# Altium integrated library Microchip Power Management Battery Management.IntLib: 217 symbols (part 3 of 5)
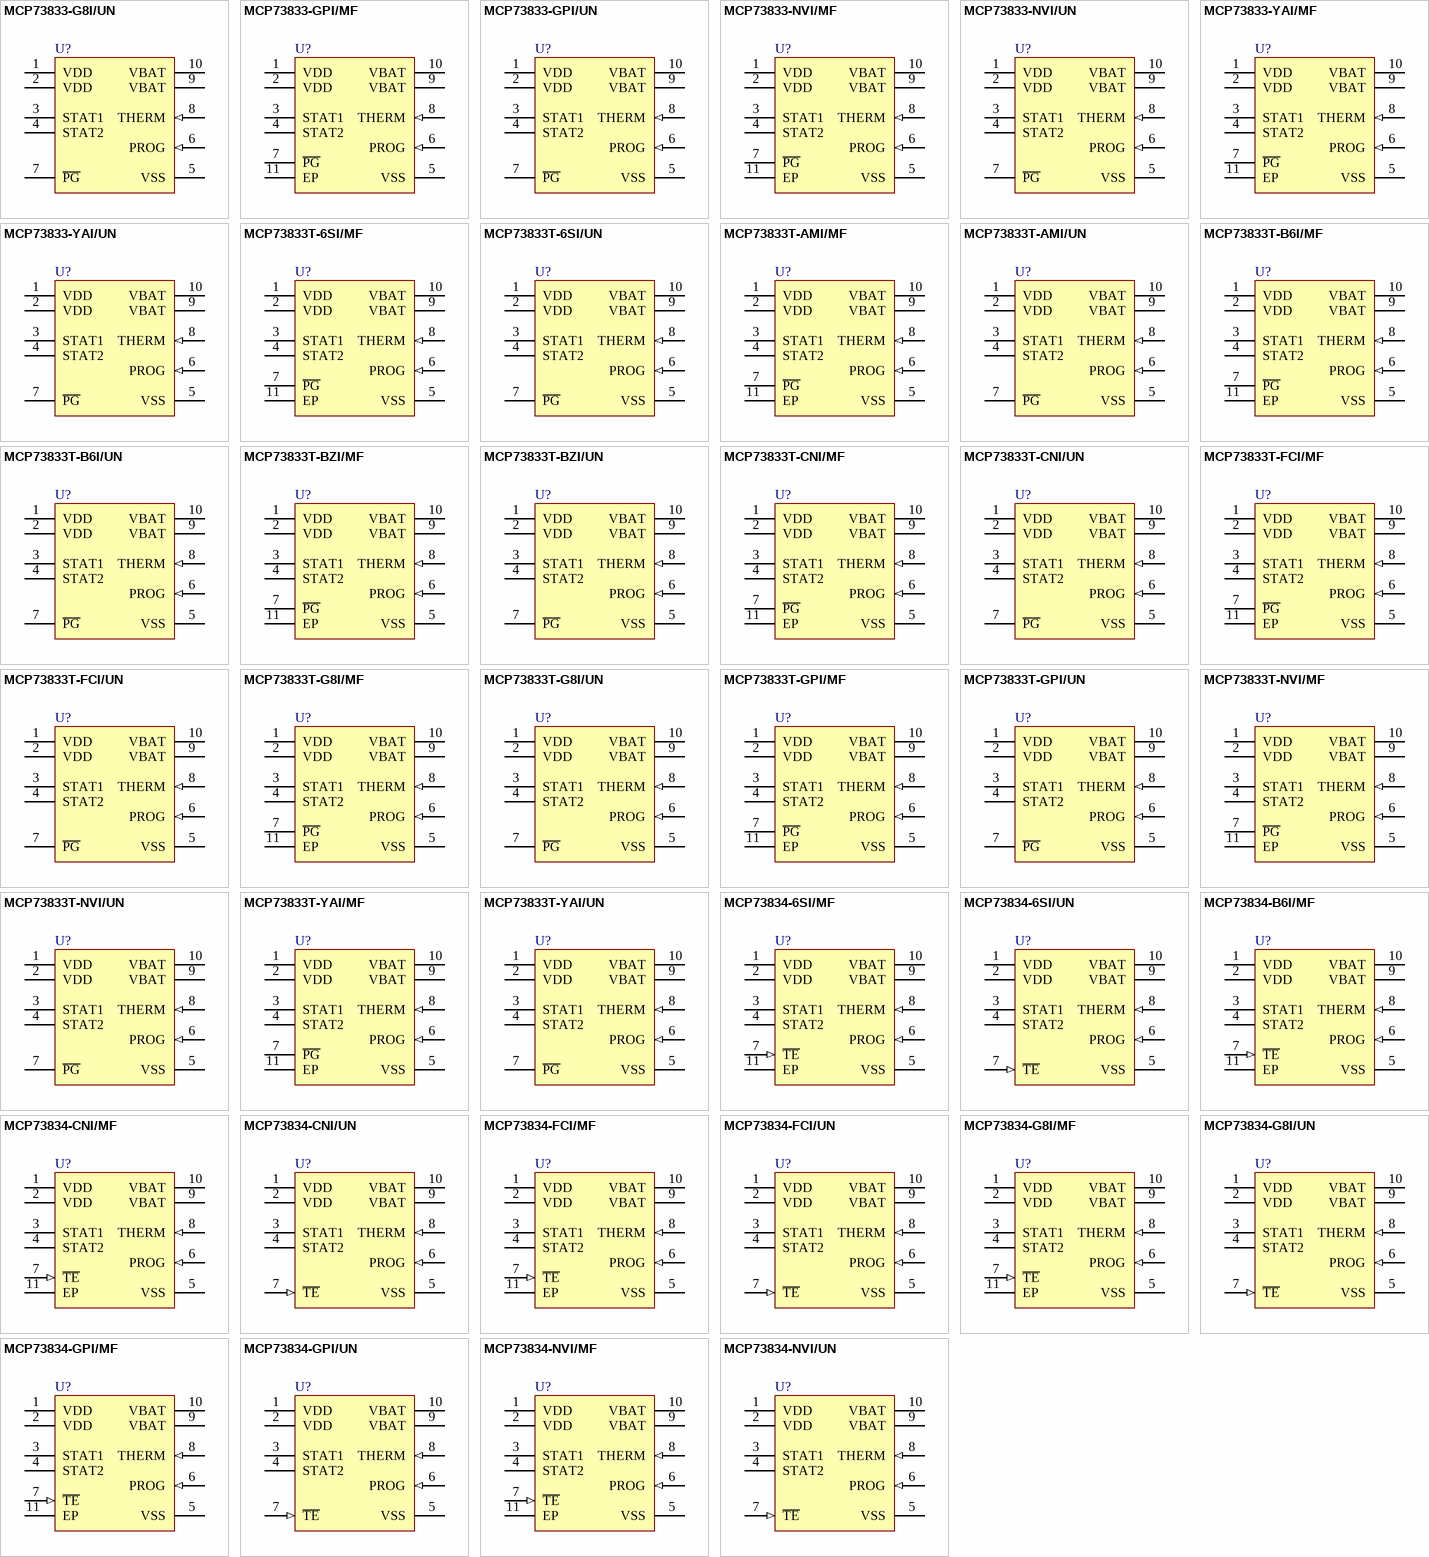
[diagram p8: symbols MCP73833-G8I/UN to MCP73834-NVI/UN]

## MCP73833T-FCI/MF
designator U?
Stand-Alone Linear Li-Ion/Li-Polymer Charge Management Controller with Power-Good Output, 4.2V, 10-Pin DFN, Industrial Temperature, Tape and Reel; DatasheetVersion: revB, May-2009; PackageVersion: revBB, Aug-2009; PackageReference: DFN-MF10; PackageDescription: 10-Lead Plastic Dual Flat, No Lead Package (MF) - 3x3x0.9mm Body [DFN]; ComponentLink1Description: Manufacturer URL; ComponentLink1URL: http://www.microchip.com/; ComponentLink2Description: Datasheet; ComponentLink2URL: http://ww1.microchip.com/downloads/en/DeviceDoc/22005b.pdf; ComponentLink3Description: Package Specification; ComponentLink3URL: http://www.microchip.com/stellent/groups/techpub_sg/documents/packagingspec/en012702.pdf
footprint DFN-MF10 (SON, 10-Leads, Body 3x3mm, Pitch 0.5mm, Microchip Recommended)
pins: 1 VDD (power), 2 VDD (power), 3 STAT1 (oc), 4 STAT2 (oc), 5 VSS (power), 6 PROG (in), 7 ~{PG} (oc), 8 THERM (in), 9 VBAT (power), 10 VBAT (power), 11 EP (power)

## MCP73833T-FCI/UN
designator U?
Stand-Alone Linear Li-Ion/Li-Polymer Charge Management Controller with Power-Good Output, 4.2V, 10-Pin MSOP, Industrial Temperature, Tape and Reel; DatasheetVersion: revB, May-2009; PackageVersion: revBB, Aug-2009; PackageReference: MSOP-UN10; PackageDescription: 10-Lead Plastic Micro Small Outline Package (UN) [MSOP]; ComponentLink1Description: Manufacturer URL; ComponentLink1URL: http://www.microchip.com/; ComponentLink2Description: Datasheet; ComponentLink2URL: http://ww1.microchip.com/downloads/en/DeviceDoc/22005b.pdf; ComponentLink3Description: Package Specification; ComponentLink3URL: http://www.microchip.com/stellent/groups/techpub_sg/documents/packagingspec/en012702.pdf
footprint MSOP-UN10_N (TSSOP, 10-Leads, Body 3x3mm, Pitch 0.5mm, IPC Medium Density)
footprint MSOP-UN10_L (TSSOP, 10-Leads, Body 3x3mm, Pitch 0.5mm, IPC High Density)
footprint MSOP-UN10_M (TSSOP, 10-Leads, Body 3x3mm, Pitch 0.5mm, IPC Low Density)
pins: 1 VDD (power), 2 VDD (power), 3 STAT1 (oc), 4 STAT2 (oc), 5 VSS (power), 6 PROG (in), 7 ~{PG} (oc), 8 THERM (in), 9 VBAT (power), 10 VBAT (power)

## MCP73833T-G8I/MF
designator U?
Stand-Alone Linear Li-Ion/Li-Polymer Charge Management Controller with Power-Good Output, 4.2V, 10-Pin DFN, Industrial Temperature, Tape and Reel; DatasheetVersion: revB, May-2009; PackageVersion: revBB, Aug-2009; PackageReference: DFN-MF10; PackageDescription: 10-Lead Plastic Dual Flat, No Lead Package (MF) - 3x3x0.9mm Body [DFN]; ComponentLink1Description: Manufacturer URL; ComponentLink1URL: http://www.microchip.com/; ComponentLink2Description: Datasheet; ComponentLink2URL: http://ww1.microchip.com/downloads/en/DeviceDoc/22005b.pdf; ComponentLink3Description: Package Specification; ComponentLink3URL: http://www.microchip.com/stellent/groups/techpub_sg/documents/packagingspec/en012702.pdf
footprint DFN-MF10 (SON, 10-Leads, Body 3x3mm, Pitch 0.5mm, Microchip Recommended)
pins: 1 VDD (power), 2 VDD (power), 3 STAT1 (oc), 4 STAT2 (oc), 5 VSS (power), 6 PROG (in), 7 ~{PG} (oc), 8 THERM (in), 9 VBAT (power), 10 VBAT (power), 11 EP (power)

## MCP73833T-G8I/UN
designator U?
Stand-Alone Linear Li-Ion/Li-Polymer Charge Management Controller with Power-Good Output, 4.2V, 10-Pin MSOP, Industrial Temperature, Tape and Reel; DatasheetVersion: revB, May-2009; PackageVersion: revBB, Aug-2009; PackageReference: MSOP-UN10; PackageDescription: 10-Lead Plastic Micro Small Outline Package (UN) [MSOP]; ComponentLink1Description: Manufacturer URL; ComponentLink1URL: http://www.microchip.com/; ComponentLink2Description: Datasheet; ComponentLink2URL: http://ww1.microchip.com/downloads/en/DeviceDoc/22005b.pdf; ComponentLink3Description: Package Specification; ComponentLink3URL: http://www.microchip.com/stellent/groups/techpub_sg/documents/packagingspec/en012702.pdf
footprint MSOP-UN10_N (TSSOP, 10-Leads, Body 3x3mm, Pitch 0.5mm, IPC Medium Density)
footprint MSOP-UN10_L (TSSOP, 10-Leads, Body 3x3mm, Pitch 0.5mm, IPC High Density)
footprint MSOP-UN10_M (TSSOP, 10-Leads, Body 3x3mm, Pitch 0.5mm, IPC Low Density)
pins: 1 VDD (power), 2 VDD (power), 3 STAT1 (oc), 4 STAT2 (oc), 5 VSS (power), 6 PROG (in), 7 ~{PG} (oc), 8 THERM (in), 9 VBAT (power), 10 VBAT (power)

## MCP73833T-GPI/MF
designator U?
Stand-Alone Linear Li-Ion/Li-Polymer Charge Management Controller with Power-Good Output, 4.2V, 10-Pin DFN, Industrial Temperature, Tape and Reel; DatasheetVersion: revB, May-2009; PackageVersion: revBB, Aug-2009; PackageReference: DFN-MF10; PackageDescription: 10-Lead Plastic Dual Flat, No Lead Package (MF) - 3x3x0.9mm Body [DFN]; ComponentLink1Description: Manufacturer URL; ComponentLink1URL: http://www.microchip.com/; ComponentLink2Description: Datasheet; ComponentLink2URL: http://ww1.microchip.com/downloads/en/DeviceDoc/22005b.pdf; ComponentLink3Description: Package Specification; ComponentLink3URL: http://www.microchip.com/stellent/groups/techpub_sg/documents/packagingspec/en012702.pdf
footprint DFN-MF10 (SON, 10-Leads, Body 3x3mm, Pitch 0.5mm, Microchip Recommended)
pins: 1 VDD (power), 2 VDD (power), 3 STAT1 (oc), 4 STAT2 (oc), 5 VSS (power), 6 PROG (in), 7 ~{PG} (oc), 8 THERM (in), 9 VBAT (power), 10 VBAT (power), 11 EP (power)

## MCP73833T-GPI/UN
designator U?
Stand-Alone Linear Li-Ion/Li-Polymer Charge Management Controller with Power-Good Output, 4.2V, 10-Pin MSOP, Industrial Temperature, Tape and Reel; DatasheetVersion: revB, May-2009; PackageVersion: revBB, Aug-2009; PackageReference: MSOP-UN10; PackageDescription: 10-Lead Plastic Micro Small Outline Package (UN) [MSOP]; ComponentLink1Description: Manufacturer URL; ComponentLink1URL: http://www.microchip.com/; ComponentLink2Description: Datasheet; ComponentLink2URL: http://ww1.microchip.com/downloads/en/DeviceDoc/22005b.pdf; ComponentLink3Description: Package Specification; ComponentLink3URL: http://www.microchip.com/stellent/groups/techpub_sg/documents/packagingspec/en012702.pdf
footprint MSOP-UN10_N (TSSOP, 10-Leads, Body 3x3mm, Pitch 0.5mm, IPC Medium Density)
footprint MSOP-UN10_L (TSSOP, 10-Leads, Body 3x3mm, Pitch 0.5mm, IPC High Density)
footprint MSOP-UN10_M (TSSOP, 10-Leads, Body 3x3mm, Pitch 0.5mm, IPC Low Density)
pins: 1 VDD (power), 2 VDD (power), 3 STAT1 (oc), 4 STAT2 (oc), 5 VSS (power), 6 PROG (in), 7 ~{PG} (oc), 8 THERM (in), 9 VBAT (power), 10 VBAT (power)

## MCP73833T-NVI/MF
designator U?
Stand-Alone Linear Li-Ion/Li-Polymer Charge Management Controller with Power-Good Output, 4.35V, 10-Pin DFN, Industrial Temperature, Tape and Reel; DatasheetVersion: revB, May-2009; PackageVersion: revBB, Aug-2009; PackageReference: DFN-MF10; PackageDescription: 10-Lead Plastic Dual Flat, No Lead Package (MF) - 3x3x0.9mm Body [DFN]; ComponentLink1Description: Manufacturer URL; ComponentLink1URL: http://www.microchip.com/; ComponentLink2Description: Datasheet; ComponentLink2URL: http://ww1.microchip.com/downloads/en/DeviceDoc/22005b.pdf; ComponentLink3Description: Package Specification; ComponentLink3URL: http://www.microchip.com/stellent/groups/techpub_sg/documents/packagingspec/en012702.pdf
footprint DFN-MF10 (SON, 10-Leads, Body 3x3mm, Pitch 0.5mm, Microchip Recommended)
pins: 1 VDD (power), 2 VDD (power), 3 STAT1 (oc), 4 STAT2 (oc), 5 VSS (power), 6 PROG (in), 7 ~{PG} (oc), 8 THERM (in), 9 VBAT (power), 10 VBAT (power), 11 EP (power)

## MCP73833T-NVI/UN
designator U?
Stand-Alone Linear Li-Ion/Li-Polymer Charge Management Controller with Power-Good Output, 4.35V, 10-Pin MSOP, Industrial Temperature, Tape and Reel; DatasheetVersion: revB, May-2009; PackageVersion: revBB, Aug-2009; PackageReference: MSOP-UN10; PackageDescription: 10-Lead Plastic Micro Small Outline Package (UN) [MSOP]; ComponentLink1Description: Manufacturer URL; ComponentLink1URL: http://www.microchip.com/; ComponentLink2Description: Datasheet; ComponentLink2URL: http://ww1.microchip.com/downloads/en/DeviceDoc/22005b.pdf; ComponentLink3Description: Package Specification; ComponentLink3URL: http://www.microchip.com/stellent/groups/techpub_sg/documents/packagingspec/en012702.pdf
footprint MSOP-UN10_N (TSSOP, 10-Leads, Body 3x3mm, Pitch 0.5mm, IPC Medium Density)
footprint MSOP-UN10_L (TSSOP, 10-Leads, Body 3x3mm, Pitch 0.5mm, IPC High Density)
footprint MSOP-UN10_M (TSSOP, 10-Leads, Body 3x3mm, Pitch 0.5mm, IPC Low Density)
pins: 1 VDD (power), 2 VDD (power), 3 STAT1 (oc), 4 STAT2 (oc), 5 VSS (power), 6 PROG (in), 7 ~{PG} (oc), 8 THERM (in), 9 VBAT (power), 10 VBAT (power)

## MCP73833T-YAI/MF
designator U?
Stand-Alone Linear Li-Ion/Li-Polymer Charge Management Controller with Power-Good Output, 4.2V, 10-Pin DFN, Industrial Temperature, Tape and Reel; DatasheetVersion: revB, May-2009; PackageVersion: revBB, Aug-2009; PackageReference: DFN-MF10; PackageDescription: 10-Lead Plastic Dual Flat, No Lead Package (MF) - 3x3x0.9mm Body [DFN]; ComponentLink1Description: Manufacturer URL; ComponentLink1URL: http://www.microchip.com/; ComponentLink2Description: Datasheet; ComponentLink2URL: http://ww1.microchip.com/downloads/en/DeviceDoc/22005b.pdf; ComponentLink3Description: Package Specification; ComponentLink3URL: http://www.microchip.com/stellent/groups/techpub_sg/documents/packagingspec/en012702.pdf
footprint DFN-MF10 (SON, 10-Leads, Body 3x3mm, Pitch 0.5mm, Microchip Recommended)
pins: 1 VDD (power), 2 VDD (power), 3 STAT1 (oc), 4 STAT2 (oc), 5 VSS (power), 6 PROG (in), 7 ~{PG} (oc), 8 THERM (in), 9 VBAT (power), 10 VBAT (power), 11 EP (power)

## MCP73833T-YAI/UN
designator U?
Stand-Alone Linear Li-Ion/Li-Polymer Charge Management Controller with Power-Good Output, 4.2V, 10-Pin MSOP, Industrial Temperature, Tape and Reel; DatasheetVersion: revB, May-2009; PackageVersion: revBB, Aug-2009; PackageReference: MSOP-UN10; PackageDescription: 10-Lead Plastic Micro Small Outline Package (UN) [MSOP]; ComponentLink1Description: Manufacturer URL; ComponentLink1URL: http://www.microchip.com/; ComponentLink2Description: Datasheet; ComponentLink2URL: http://ww1.microchip.com/downloads/en/DeviceDoc/22005b.pdf; ComponentLink3Description: Package Specification; ComponentLink3URL: http://www.microchip.com/stellent/groups/techpub_sg/documents/packagingspec/en012702.pdf
footprint MSOP-UN10_N (TSSOP, 10-Leads, Body 3x3mm, Pitch 0.5mm, IPC Medium Density)
footprint MSOP-UN10_L (TSSOP, 10-Leads, Body 3x3mm, Pitch 0.5mm, IPC High Density)
footprint MSOP-UN10_M (TSSOP, 10-Leads, Body 3x3mm, Pitch 0.5mm, IPC Low Density)
pins: 1 VDD (power), 2 VDD (power), 3 STAT1 (oc), 4 STAT2 (oc), 5 VSS (power), 6 PROG (in), 7 ~{PG} (oc), 8 THERM (in), 9 VBAT (power), 10 VBAT (power)

## MCP73834-6SI/MF
designator U?
Stand-Alone Linear Li-Ion/Li-Polymer Charge Management Controller with Timer Enable, 4.2V, 10-Pin DFN, Industrial Temperature; DatasheetVersion: revB, May-2009; PackageVersion: revBB, Aug-2009; PackageReference: DFN-MF10; PackageDescription: 10-Lead Plastic Dual Flat, No Lead Package (MF) - 3x3x0.9mm Body [DFN]; ComponentLink1Description: Manufacturer URL; ComponentLink1URL: http://www.microchip.com/; ComponentLink2Description: Datasheet; ComponentLink2URL: http://ww1.microchip.com/downloads/en/DeviceDoc/22005b.pdf; ComponentLink3Description: Package Specification; ComponentLink3URL: http://www.microchip.com/stellent/groups/techpub_sg/documents/packagingspec/en012702.pdf
footprint DFN-MF10 (SON, 10-Leads, Body 3x3mm, Pitch 0.5mm, Microchip Recommended)
pins: 1 VDD (power), 2 VDD (power), 3 STAT1 (oc), 4 STAT2 (oc), 5 VSS (power), 6 PROG (in), 7 ~{TE} (in), 8 THERM (in), 9 VBAT (power), 10 VBAT (power), 11 EP (power)

## MCP73834-6SI/UN
designator U?
Stand-Alone Linear Li-Ion/Li-Polymer Charge Management Controller with Timer Enable, 4.2V, 10-Pin MSOP, Industrial Temperature; DatasheetVersion: revB, May-2009; PackageVersion: revBB, Aug-2009; PackageReference: MSOP-UN10; PackageDescription: 10-Lead Plastic Micro Small Outline Package (UN) [MSOP]; ComponentLink1Description: Manufacturer URL; ComponentLink1URL: http://www.microchip.com/; ComponentLink2Description: Datasheet; ComponentLink2URL: http://ww1.microchip.com/downloads/en/DeviceDoc/22005b.pdf; ComponentLink3Description: Package Specification; ComponentLink3URL: http://www.microchip.com/stellent/groups/techpub_sg/documents/packagingspec/en012702.pdf
footprint MSOP-UN10_N (TSSOP, 10-Leads, Body 3x3mm, Pitch 0.5mm, IPC Medium Density)
footprint MSOP-UN10_L (TSSOP, 10-Leads, Body 3x3mm, Pitch 0.5mm, IPC High Density)
footprint MSOP-UN10_M (TSSOP, 10-Leads, Body 3x3mm, Pitch 0.5mm, IPC Low Density)
pins: 1 VDD (power), 2 VDD (power), 3 STAT1 (oc), 4 STAT2 (oc), 5 VSS (power), 6 PROG (in), 7 ~{TE} (in), 8 THERM (in), 9 VBAT (power), 10 VBAT (power)

## MCP73834-B6I/MF
designator U?
Stand-Alone Linear Li-Ion/Li-Polymer Charge Management Controller with Timer Enable, 4.2V, 10-Pin DFN, Industrial Temperature; DatasheetVersion: revB, May-2009; PackageVersion: revBB, Aug-2009; PackageReference: DFN-MF10; PackageDescription: 10-Lead Plastic Dual Flat, No Lead Package (MF) - 3x3x0.9mm Body [DFN]; ComponentLink1Description: Manufacturer URL; ComponentLink1URL: http://www.microchip.com/; ComponentLink2Description: Datasheet; ComponentLink2URL: http://ww1.microchip.com/downloads/en/DeviceDoc/22005b.pdf; ComponentLink3Description: Package Specification; ComponentLink3URL: http://www.microchip.com/stellent/groups/techpub_sg/documents/packagingspec/en012702.pdf
footprint DFN-MF10 (SON, 10-Leads, Body 3x3mm, Pitch 0.5mm, Microchip Recommended)
pins: 1 VDD (power), 2 VDD (power), 3 STAT1 (oc), 4 STAT2 (oc), 5 VSS (power), 6 PROG (in), 7 ~{TE} (in), 8 THERM (in), 9 VBAT (power), 10 VBAT (power), 11 EP (power)

## MCP73834-CNI/MF
designator U?
Stand-Alone Linear Li-Ion/Li-Polymer Charge Management Controller with Timer Enable, 4.2V, 10-Pin DFN, Industrial Temperature; DatasheetVersion: revB, May-2009; PackageVersion: revBB, Aug-2009; PackageReference: DFN-MF10; PackageDescription: 10-Lead Plastic Dual Flat, No Lead Package (MF) - 3x3x0.9mm Body [DFN]; ComponentLink1Description: Manufacturer URL; ComponentLink1URL: http://www.microchip.com/; ComponentLink2Description: Datasheet; ComponentLink2URL: http://ww1.microchip.com/downloads/en/DeviceDoc/22005b.pdf; ComponentLink3Description: Package Specification; ComponentLink3URL: http://www.microchip.com/stellent/groups/techpub_sg/documents/packagingspec/en012702.pdf
footprint DFN-MF10 (SON, 10-Leads, Body 3x3mm, Pitch 0.5mm, Microchip Recommended)
pins: 1 VDD (power), 2 VDD (power), 3 STAT1 (oc), 4 STAT2 (oc), 5 VSS (power), 6 PROG (in), 7 ~{TE} (in), 8 THERM (in), 9 VBAT (power), 10 VBAT (power), 11 EP (power)

## MCP73834-CNI/UN
designator U?
Stand-Alone Linear Li-Ion/Li-Polymer Charge Management Controller with Timer Enable, 4.2V, 10-Pin MSOP, Industrial Temperature; DatasheetVersion: revB, May-2009; PackageVersion: revBB, Aug-2009; PackageReference: MSOP-UN10; PackageDescription: 10-Lead Plastic Micro Small Outline Package (UN) [MSOP]; ComponentLink1Description: Manufacturer URL; ComponentLink1URL: http://www.microchip.com/; ComponentLink2Description: Datasheet; ComponentLink2URL: http://ww1.microchip.com/downloads/en/DeviceDoc/22005b.pdf; ComponentLink3Description: Package Specification; ComponentLink3URL: http://www.microchip.com/stellent/groups/techpub_sg/documents/packagingspec/en012702.pdf
footprint MSOP-UN10_N (TSSOP, 10-Leads, Body 3x3mm, Pitch 0.5mm, IPC Medium Density)
footprint MSOP-UN10_L (TSSOP, 10-Leads, Body 3x3mm, Pitch 0.5mm, IPC High Density)
footprint MSOP-UN10_M (TSSOP, 10-Leads, Body 3x3mm, Pitch 0.5mm, IPC Low Density)
pins: 1 VDD (power), 2 VDD (power), 3 STAT1 (oc), 4 STAT2 (oc), 5 VSS (power), 6 PROG (in), 7 ~{TE} (in), 8 THERM (in), 9 VBAT (power), 10 VBAT (power)

## MCP73834-FCI/MF
designator U?
Stand-Alone Linear Li-Ion/Li-Polymer Charge Management Controller with Timer Enable, 4.2V, 10-Pin DFN, Industrial Temperature; DatasheetVersion: revB, May-2009; PackageVersion: revBB, Aug-2009; PackageReference: DFN-MF10; PackageDescription: 10-Lead Plastic Dual Flat, No Lead Package (MF) - 3x3x0.9mm Body [DFN]; ComponentLink1Description: Manufacturer URL; ComponentLink1URL: http://www.microchip.com/; ComponentLink2Description: Datasheet; ComponentLink2URL: http://ww1.microchip.com/downloads/en/DeviceDoc/22005b.pdf; ComponentLink3Description: Package Specification; ComponentLink3URL: http://www.microchip.com/stellent/groups/techpub_sg/documents/packagingspec/en012702.pdf
footprint DFN-MF10 (SON, 10-Leads, Body 3x3mm, Pitch 0.5mm, Microchip Recommended)
pins: 1 VDD (power), 2 VDD (power), 3 STAT1 (oc), 4 STAT2 (oc), 5 VSS (power), 6 PROG (in), 7 ~{TE} (in), 8 THERM (in), 9 VBAT (power), 10 VBAT (power), 11 EP (power)

## MCP73834-FCI/UN
designator U?
Stand-Alone Linear Li-Ion/Li-Polymer Charge Management Controller with Timer Enable, 4.2V, 10-Pin MSOP, Industrial Temperature; DatasheetVersion: revB, May-2009; PackageVersion: revBB, Aug-2009; PackageReference: MSOP-UN10; PackageDescription: 10-Lead Plastic Micro Small Outline Package (UN) [MSOP]; ComponentLink1Description: Manufacturer URL; ComponentLink1URL: http://www.microchip.com/; ComponentLink2Description: Datasheet; ComponentLink2URL: http://ww1.microchip.com/downloads/en/DeviceDoc/22005b.pdf; ComponentLink3Description: Package Specification; ComponentLink3URL: http://www.microchip.com/stellent/groups/techpub_sg/documents/packagingspec/en012702.pdf
footprint MSOP-UN10_N (TSSOP, 10-Leads, Body 3x3mm, Pitch 0.5mm, IPC Medium Density)
footprint MSOP-UN10_L (TSSOP, 10-Leads, Body 3x3mm, Pitch 0.5mm, IPC High Density)
footprint MSOP-UN10_M (TSSOP, 10-Leads, Body 3x3mm, Pitch 0.5mm, IPC Low Density)
pins: 1 VDD (power), 2 VDD (power), 3 STAT1 (oc), 4 STAT2 (oc), 5 VSS (power), 6 PROG (in), 7 ~{TE} (in), 8 THERM (in), 9 VBAT (power), 10 VBAT (power)

## MCP73834-G8I/MF
designator U?
Stand-Alone Linear Li-Ion/Li-Polymer Charge Management Controller with Timer Enable, 4.2V, 10-Pin DFN, Industrial Temperature; DatasheetVersion: revB, May-2009; PackageVersion: revBB, Aug-2009; PackageReference: DFN-MF10; PackageDescription: 10-Lead Plastic Dual Flat, No Lead Package (MF) - 3x3x0.9mm Body [DFN]; ComponentLink1Description: Manufacturer URL; ComponentLink1URL: http://www.microchip.com/; ComponentLink2Description: Datasheet; ComponentLink2URL: http://ww1.microchip.com/downloads/en/DeviceDoc/22005b.pdf; ComponentLink3Description: Package Specification; ComponentLink3URL: http://www.microchip.com/stellent/groups/techpub_sg/documents/packagingspec/en012702.pdf
footprint DFN-MF10 (SON, 10-Leads, Body 3x3mm, Pitch 0.5mm, Microchip Recommended)
pins: 1 VDD (power), 2 VDD (power), 3 STAT1 (oc), 4 STAT2 (oc), 5 VSS (power), 6 PROG (in), 7 ~{TE} (in), 8 THERM (in), 9 VBAT (power), 10 VBAT (power), 11 EP (power)

## MCP73834-G8I/UN
designator U?
Stand-Alone Linear Li-Ion/Li-Polymer Charge Management Controller with Timer Enable, 4.2V, 10-Pin MSOP, Industrial Temperature; DatasheetVersion: revB, May-2009; PackageVersion: revBB, Aug-2009; PackageReference: MSOP-UN10; PackageDescription: 10-Lead Plastic Micro Small Outline Package (UN) [MSOP]; ComponentLink1Description: Manufacturer URL; ComponentLink1URL: http://www.microchip.com/; ComponentLink2Description: Datasheet; ComponentLink2URL: http://ww1.microchip.com/downloads/en/DeviceDoc/22005b.pdf; ComponentLink3Description: Package Specification; ComponentLink3URL: http://www.microchip.com/stellent/groups/techpub_sg/documents/packagingspec/en012702.pdf
footprint MSOP-UN10_N (TSSOP, 10-Leads, Body 3x3mm, Pitch 0.5mm, IPC Medium Density)
footprint MSOP-UN10_L (TSSOP, 10-Leads, Body 3x3mm, Pitch 0.5mm, IPC High Density)
footprint MSOP-UN10_M (TSSOP, 10-Leads, Body 3x3mm, Pitch 0.5mm, IPC Low Density)
pins: 1 VDD (power), 2 VDD (power), 3 STAT1 (oc), 4 STAT2 (oc), 5 VSS (power), 6 PROG (in), 7 ~{TE} (in), 8 THERM (in), 9 VBAT (power), 10 VBAT (power)

## MCP73834-GPI/MF
designator U?
Stand-Alone Linear Li-Ion/Li-Polymer Charge Management Controller with Timer Enable, 4.2V, 10-Pin DFN, Industrial Temperature; DatasheetVersion: revB, May-2009; PackageVersion: revBB, Aug-2009; PackageReference: DFN-MF10; PackageDescription: 10-Lead Plastic Dual Flat, No Lead Package (MF) - 3x3x0.9mm Body [DFN]; ComponentLink1Description: Manufacturer URL; ComponentLink1URL: http://www.microchip.com/; ComponentLink2Description: Datasheet; ComponentLink2URL: http://ww1.microchip.com/downloads/en/DeviceDoc/22005b.pdf; ComponentLink3Description: Package Specification; ComponentLink3URL: http://www.microchip.com/stellent/groups/techpub_sg/documents/packagingspec/en012702.pdf
footprint DFN-MF10 (SON, 10-Leads, Body 3x3mm, Pitch 0.5mm, Microchip Recommended)
pins: 1 VDD (power), 2 VDD (power), 3 STAT1 (oc), 4 STAT2 (oc), 5 VSS (power), 6 PROG (in), 7 ~{TE} (in), 8 THERM (in), 9 VBAT (power), 10 VBAT (power), 11 EP (power)

## MCP73834-GPI/UN
designator U?
Stand-Alone Linear Li-Ion/Li-Polymer Charge Management Controller with Timer Enable, 4.2V, 10-Pin MSOP, Industrial Temperature; DatasheetVersion: revB, May-2009; PackageVersion: revBB, Aug-2009; PackageReference: MSOP-UN10; PackageDescription: 10-Lead Plastic Micro Small Outline Package (UN) [MSOP]; ComponentLink1Description: Manufacturer URL; ComponentLink1URL: http://www.microchip.com/; ComponentLink2Description: Datasheet; ComponentLink2URL: http://ww1.microchip.com/downloads/en/DeviceDoc/22005b.pdf; ComponentLink3Description: Package Specification; ComponentLink3URL: http://www.microchip.com/stellent/groups/techpub_sg/documents/packagingspec/en012702.pdf
footprint MSOP-UN10_N (TSSOP, 10-Leads, Body 3x3mm, Pitch 0.5mm, IPC Medium Density)
footprint MSOP-UN10_L (TSSOP, 10-Leads, Body 3x3mm, Pitch 0.5mm, IPC High Density)
footprint MSOP-UN10_M (TSSOP, 10-Leads, Body 3x3mm, Pitch 0.5mm, IPC Low Density)
pins: 1 VDD (power), 2 VDD (power), 3 STAT1 (oc), 4 STAT2 (oc), 5 VSS (power), 6 PROG (in), 7 ~{TE} (in), 8 THERM (in), 9 VBAT (power), 10 VBAT (power)

## MCP73834-NVI/MF
designator U?
Stand-Alone Linear Li-Ion/Li-Polymer Charge Management Controller with Timer Enable, 4.35V, 10-Pin DFN, Industrial Temperature; DatasheetVersion: revB, May-2009; PackageVersion: revBB, Aug-2009; PackageReference: DFN-MF10; PackageDescription: 10-Lead Plastic Dual Flat, No Lead Package (MF) - 3x3x0.9mm Body [DFN]; ComponentLink1Description: Manufacturer URL; ComponentLink1URL: http://www.microchip.com/; ComponentLink2Description: Datasheet; ComponentLink2URL: http://ww1.microchip.com/downloads/en/DeviceDoc/22005b.pdf; ComponentLink3Description: Package Specification; ComponentLink3URL: http://www.microchip.com/stellent/groups/techpub_sg/documents/packagingspec/en012702.pdf
footprint DFN-MF10 (SON, 10-Leads, Body 3x3mm, Pitch 0.5mm, Microchip Recommended)
pins: 1 VDD (power), 2 VDD (power), 3 STAT1 (oc), 4 STAT2 (oc), 5 VSS (power), 6 PROG (in), 7 ~{TE} (in), 8 THERM (in), 9 VBAT (power), 10 VBAT (power), 11 EP (power)

## MCP73834-NVI/UN
designator U?
Stand-Alone Linear Li-Ion/Li-Polymer Charge Management Controller with Timer Enable, 4.35V, 10-Pin MSOP, Industrial Temperature; DatasheetVersion: revB, May-2009; PackageVersion: revBB, Aug-2009; PackageReference: MSOP-UN10; PackageDescription: 10-Lead Plastic Micro Small Outline Package (UN) [MSOP]; ComponentLink1Description: Manufacturer URL; ComponentLink1URL: http://www.microchip.com/; ComponentLink2Description: Datasheet; ComponentLink2URL: http://ww1.microchip.com/downloads/en/DeviceDoc/22005b.pdf; ComponentLink3Description: Package Specification; ComponentLink3URL: http://www.microchip.com/stellent/groups/techpub_sg/documents/packagingspec/en012702.pdf
footprint MSOP-UN10_N (TSSOP, 10-Leads, Body 3x3mm, Pitch 0.5mm, IPC Medium Density)
footprint MSOP-UN10_L (TSSOP, 10-Leads, Body 3x3mm, Pitch 0.5mm, IPC High Density)
footprint MSOP-UN10_M (TSSOP, 10-Leads, Body 3x3mm, Pitch 0.5mm, IPC Low Density)
pins: 1 VDD (power), 2 VDD (power), 3 STAT1 (oc), 4 STAT2 (oc), 5 VSS (power), 6 PROG (in), 7 ~{TE} (in), 8 THERM (in), 9 VBAT (power), 10 VBAT (power)

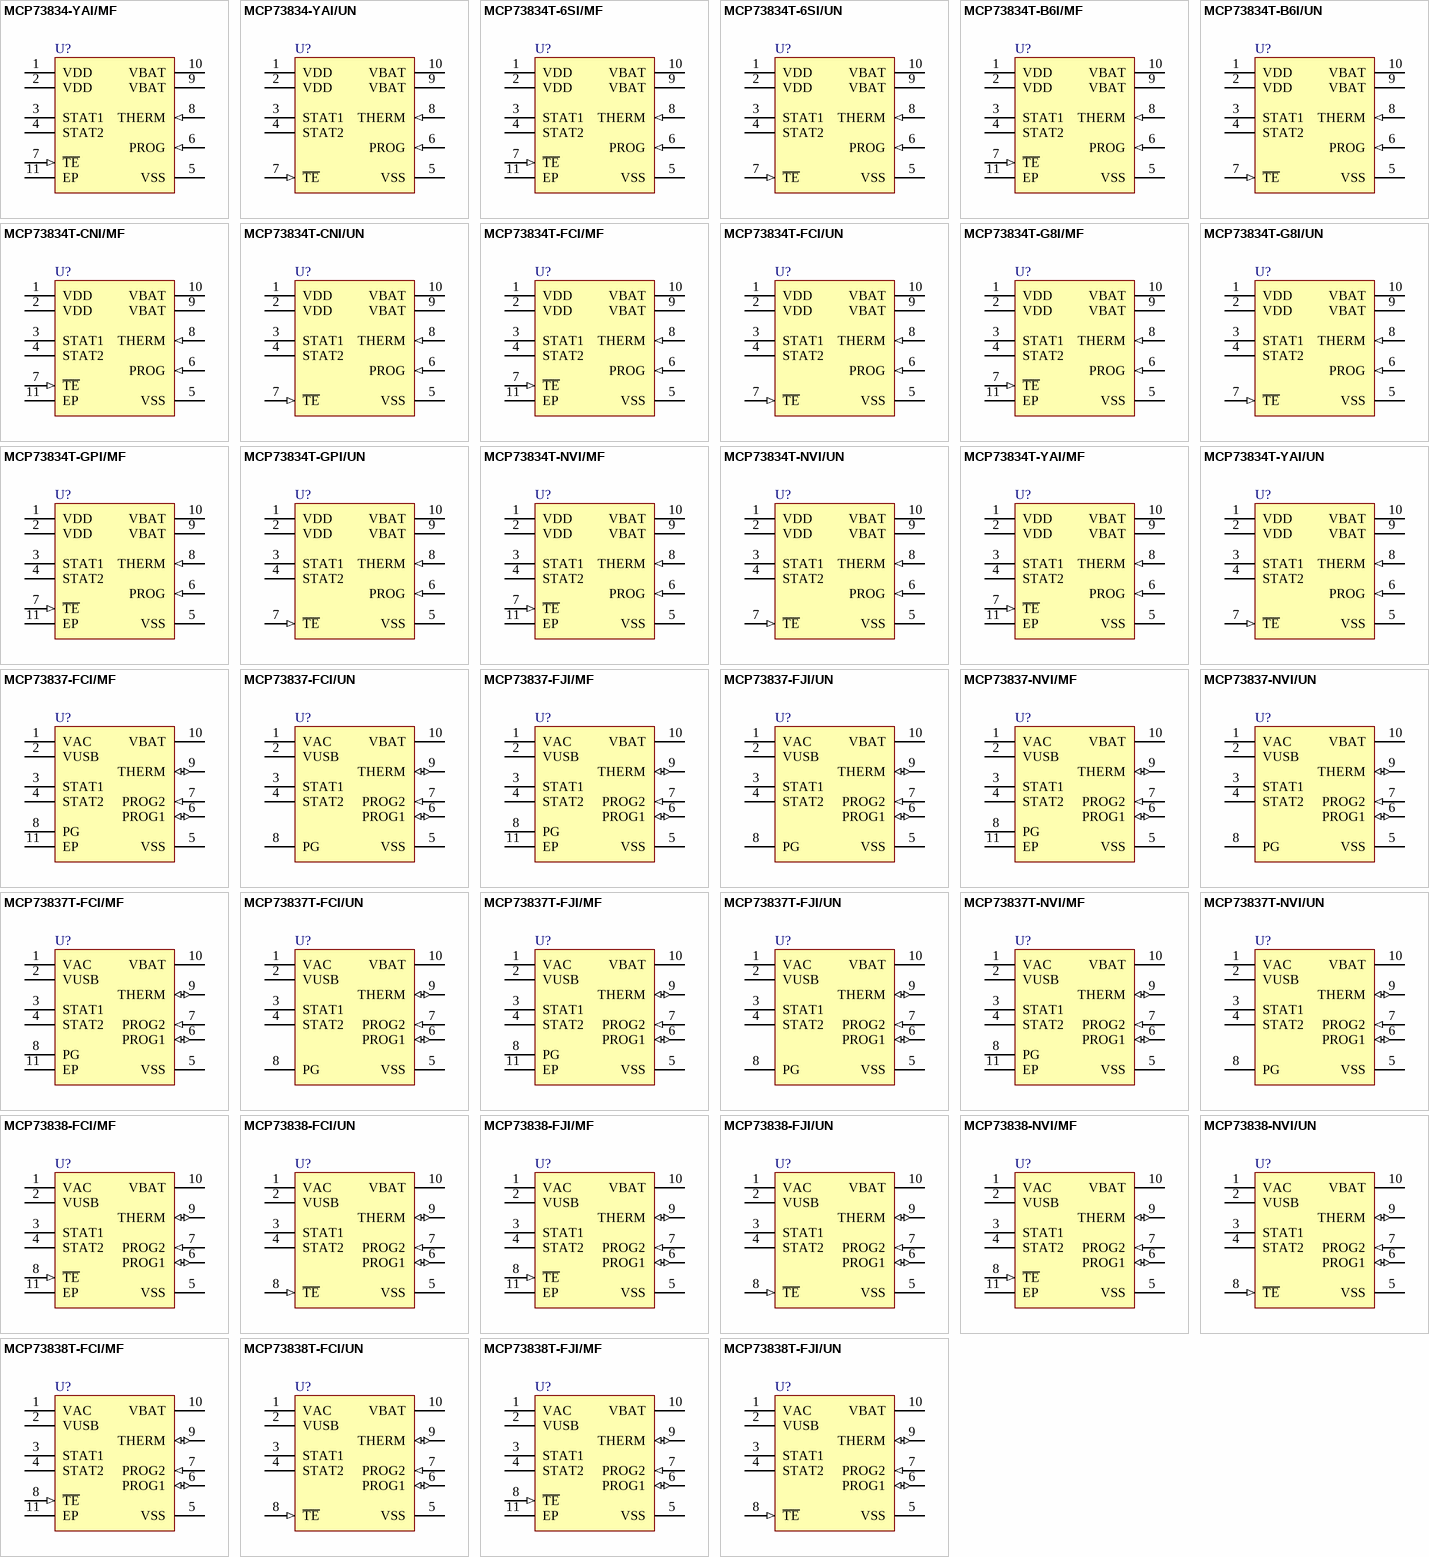
[diagram p3: symbols MCP73834-YAI/MF to MCP73838T-FJI/UN]

## MCP73834-YAI/MF
designator U?
Stand-Alone Linear Li-Ion/Li-Polymer Charge Management Controller with Timer Enable, 4.2V, 10-Pin DFN, Industrial Temperature; DatasheetVersion: revB, May-2009; PackageVersion: revBB, Aug-2009; PackageReference: DFN-MF10; PackageDescription: 10-Lead Plastic Dual Flat, No Lead Package (MF) - 3x3x0.9mm Body [DFN]; ComponentLink1Description: Manufacturer URL; ComponentLink1URL: http://www.microchip.com/; ComponentLink2Description: Datasheet; ComponentLink2URL: http://ww1.microchip.com/downloads/en/DeviceDoc/22005b.pdf; ComponentLink3Description: Package Specification; ComponentLink3URL: http://www.microchip.com/stellent/groups/techpub_sg/documents/packagingspec/en012702.pdf
footprint DFN-MF10 (SON, 10-Leads, Body 3x3mm, Pitch 0.5mm, Microchip Recommended)
pins: 1 VDD (power), 2 VDD (power), 3 STAT1 (oc), 4 STAT2 (oc), 5 VSS (power), 6 PROG (in), 7 ~{TE} (in), 8 THERM (in), 9 VBAT (power), 10 VBAT (power), 11 EP (power)

## MCP73834-YAI/UN
designator U?
Stand-Alone Linear Li-Ion/Li-Polymer Charge Management Controller with Timer Enable, 4.2V, 10-Pin MSOP, Industrial Temperature; DatasheetVersion: revB, May-2009; PackageVersion: revBB, Aug-2009; PackageReference: MSOP-UN10; PackageDescription: 10-Lead Plastic Micro Small Outline Package (UN) [MSOP]; ComponentLink1Description: Manufacturer URL; ComponentLink1URL: http://www.microchip.com/; ComponentLink2Description: Datasheet; ComponentLink2URL: http://ww1.microchip.com/downloads/en/DeviceDoc/22005b.pdf; ComponentLink3Description: Package Specification; ComponentLink3URL: http://www.microchip.com/stellent/groups/techpub_sg/documents/packagingspec/en012702.pdf
footprint MSOP-UN10_N (TSSOP, 10-Leads, Body 3x3mm, Pitch 0.5mm, IPC Medium Density)
footprint MSOP-UN10_L (TSSOP, 10-Leads, Body 3x3mm, Pitch 0.5mm, IPC High Density)
footprint MSOP-UN10_M (TSSOP, 10-Leads, Body 3x3mm, Pitch 0.5mm, IPC Low Density)
pins: 1 VDD (power), 2 VDD (power), 3 STAT1 (oc), 4 STAT2 (oc), 5 VSS (power), 6 PROG (in), 7 ~{TE} (in), 8 THERM (in), 9 VBAT (power), 10 VBAT (power)

## MCP73834T-6SI/MF
designator U?
Stand-Alone Linear Li-Ion/Li-Polymer Charge Management Controller with Timer Enable, 4.2V, 10-Pin DFN, Industrial Temperature, Tape and Reel; DatasheetVersion: revB, May-2009; PackageVersion: revBB, Aug-2009; PackageReference: DFN-MF10; PackageDescription: 10-Lead Plastic Dual Flat, No Lead Package (MF) - 3x3x0.9mm Body [DFN]; ComponentLink1Description: Manufacturer URL; ComponentLink1URL: http://www.microchip.com/; ComponentLink2Description: Datasheet; ComponentLink2URL: http://ww1.microchip.com/downloads/en/DeviceDoc/22005b.pdf; ComponentLink3Description: Package Specification; ComponentLink3URL: http://www.microchip.com/stellent/groups/techpub_sg/documents/packagingspec/en012702.pdf
footprint DFN-MF10 (SON, 10-Leads, Body 3x3mm, Pitch 0.5mm, Microchip Recommended)
pins: 1 VDD (power), 2 VDD (power), 3 STAT1 (oc), 4 STAT2 (oc), 5 VSS (power), 6 PROG (in), 7 ~{TE} (in), 8 THERM (in), 9 VBAT (power), 10 VBAT (power), 11 EP (power)

## MCP73834T-6SI/UN
designator U?
Stand-Alone Linear Li-Ion/Li-Polymer Charge Management Controller with Timer Enable, 4.2V, 10-Pin MSOP, Industrial Temperature, Tape and Reel; DatasheetVersion: revB, May-2009; PackageVersion: revBB, Aug-2009; PackageReference: MSOP-UN10; PackageDescription: 10-Lead Plastic Micro Small Outline Package (UN) [MSOP]; ComponentLink1Description: Manufacturer URL; ComponentLink1URL: http://www.microchip.com/; ComponentLink2Description: Datasheet; ComponentLink2URL: http://ww1.microchip.com/downloads/en/DeviceDoc/22005b.pdf; ComponentLink3Description: Package Specification; ComponentLink3URL: http://www.microchip.com/stellent/groups/techpub_sg/documents/packagingspec/en012702.pdf
footprint MSOP-UN10_N (TSSOP, 10-Leads, Body 3x3mm, Pitch 0.5mm, IPC Medium Density)
footprint MSOP-UN10_L (TSSOP, 10-Leads, Body 3x3mm, Pitch 0.5mm, IPC High Density)
footprint MSOP-UN10_M (TSSOP, 10-Leads, Body 3x3mm, Pitch 0.5mm, IPC Low Density)
pins: 1 VDD (power), 2 VDD (power), 3 STAT1 (oc), 4 STAT2 (oc), 5 VSS (power), 6 PROG (in), 7 ~{TE} (in), 8 THERM (in), 9 VBAT (power), 10 VBAT (power)

## MCP73834T-B6I/MF
designator U?
Stand-Alone Linear Li-Ion/Li-Polymer Charge Management Controller with Timer Enable, 4.2V, 10-Pin DFN, Industrial Temperature, Tape and Reel; DatasheetVersion: revB, May-2009; PackageVersion: revBB, Aug-2009; PackageReference: DFN-MF10; PackageDescription: 10-Lead Plastic Dual Flat, No Lead Package (MF) - 3x3x0.9mm Body [DFN]; ComponentLink1Description: Manufacturer URL; ComponentLink1URL: http://www.microchip.com/; ComponentLink2Description: Datasheet; ComponentLink2URL: http://ww1.microchip.com/downloads/en/DeviceDoc/22005b.pdf; ComponentLink3Description: Package Specification; ComponentLink3URL: http://www.microchip.com/stellent/groups/techpub_sg/documents/packagingspec/en012702.pdf
footprint DFN-MF10 (SON, 10-Leads, Body 3x3mm, Pitch 0.5mm, Microchip Recommended)
pins: 1 VDD (power), 2 VDD (power), 3 STAT1 (oc), 4 STAT2 (oc), 5 VSS (power), 6 PROG (in), 7 ~{TE} (in), 8 THERM (in), 9 VBAT (power), 10 VBAT (power), 11 EP (power)

## MCP73834T-B6I/UN
designator U?
Stand-Alone Linear Li-Ion/Li-Polymer Charge Management Controller with Timer Enable, 4.2V, 10-Pin MSOP, Industrial Temperature, Tape and Reel; DatasheetVersion: revB, May-2009; PackageVersion: revBB, Aug-2009; PackageReference: MSOP-UN10; PackageDescription: 10-Lead Plastic Micro Small Outline Package (UN) [MSOP]; ComponentLink1Description: Manufacturer URL; ComponentLink1URL: http://www.microchip.com/; ComponentLink2Description: Datasheet; ComponentLink2URL: http://ww1.microchip.com/downloads/en/DeviceDoc/22005b.pdf; ComponentLink3Description: Package Specification; ComponentLink3URL: http://www.microchip.com/stellent/groups/techpub_sg/documents/packagingspec/en012702.pdf
footprint MSOP-UN10_N (TSSOP, 10-Leads, Body 3x3mm, Pitch 0.5mm, IPC Medium Density)
footprint MSOP-UN10_L (TSSOP, 10-Leads, Body 3x3mm, Pitch 0.5mm, IPC High Density)
footprint MSOP-UN10_M (TSSOP, 10-Leads, Body 3x3mm, Pitch 0.5mm, IPC Low Density)
pins: 1 VDD (power), 2 VDD (power), 3 STAT1 (oc), 4 STAT2 (oc), 5 VSS (power), 6 PROG (in), 7 ~{TE} (in), 8 THERM (in), 9 VBAT (power), 10 VBAT (power)

## MCP73834T-CNI/MF
designator U?
Stand-Alone Linear Li-Ion/Li-Polymer Charge Management Controller with Timer Enable, 4.2V, 10-Pin DFN, Industrial Temperature, Tape and Reel; DatasheetVersion: revB, May-2009; PackageVersion: revBB, Aug-2009; PackageReference: DFN-MF10; PackageDescription: 10-Lead Plastic Dual Flat, No Lead Package (MF) - 3x3x0.9mm Body [DFN]; ComponentLink1Description: Manufacturer URL; ComponentLink1URL: http://www.microchip.com/; ComponentLink2Description: Datasheet; ComponentLink2URL: http://ww1.microchip.com/downloads/en/DeviceDoc/22005b.pdf; ComponentLink3Description: Package Specification; ComponentLink3URL: http://www.microchip.com/stellent/groups/techpub_sg/documents/packagingspec/en012702.pdf
footprint DFN-MF10 (SON, 10-Leads, Body 3x3mm, Pitch 0.5mm, Microchip Recommended)
pins: 1 VDD (power), 2 VDD (power), 3 STAT1 (oc), 4 STAT2 (oc), 5 VSS (power), 6 PROG (in), 7 ~{TE} (in), 8 THERM (in), 9 VBAT (power), 10 VBAT (power), 11 EP (power)

## MCP73834T-CNI/UN
designator U?
Stand-Alone Linear Li-Ion/Li-Polymer Charge Management Controller with Timer Enable, 4.2V, 10-Pin MSOP, Industrial Temperature, Tape and Reel; DatasheetVersion: revB, May-2009; PackageVersion: revBB, Aug-2009; PackageReference: MSOP-UN10; PackageDescription: 10-Lead Plastic Micro Small Outline Package (UN) [MSOP]; ComponentLink1Description: Manufacturer URL; ComponentLink1URL: http://www.microchip.com/; ComponentLink2Description: Datasheet; ComponentLink2URL: http://ww1.microchip.com/downloads/en/DeviceDoc/22005b.pdf; ComponentLink3Description: Package Specification; ComponentLink3URL: http://www.microchip.com/stellent/groups/techpub_sg/documents/packagingspec/en012702.pdf
footprint MSOP-UN10_N (TSSOP, 10-Leads, Body 3x3mm, Pitch 0.5mm, IPC Medium Density)
footprint MSOP-UN10_L (TSSOP, 10-Leads, Body 3x3mm, Pitch 0.5mm, IPC High Density)
footprint MSOP-UN10_M (TSSOP, 10-Leads, Body 3x3mm, Pitch 0.5mm, IPC Low Density)
pins: 1 VDD (power), 2 VDD (power), 3 STAT1 (oc), 4 STAT2 (oc), 5 VSS (power), 6 PROG (in), 7 ~{TE} (in), 8 THERM (in), 9 VBAT (power), 10 VBAT (power)

## MCP73834T-FCI/MF
designator U?
Stand-Alone Linear Li-Ion/Li-Polymer Charge Management Controller with Timer Enable, 4.2V, 10-Pin DFN, Industrial Temperature, Tape and Reel; DatasheetVersion: revB, May-2009; PackageVersion: revBB, Aug-2009; PackageReference: DFN-MF10; PackageDescription: 10-Lead Plastic Dual Flat, No Lead Package (MF) - 3x3x0.9mm Body [DFN]; ComponentLink1Description: Manufacturer URL; ComponentLink1URL: http://www.microchip.com/; ComponentLink2Description: Datasheet; ComponentLink2URL: http://ww1.microchip.com/downloads/en/DeviceDoc/22005b.pdf; ComponentLink3Description: Package Specification; ComponentLink3URL: http://www.microchip.com/stellent/groups/techpub_sg/documents/packagingspec/en012702.pdf
footprint DFN-MF10 (SON, 10-Leads, Body 3x3mm, Pitch 0.5mm, Microchip Recommended)
pins: 1 VDD (power), 2 VDD (power), 3 STAT1 (oc), 4 STAT2 (oc), 5 VSS (power), 6 PROG (in), 7 ~{TE} (in), 8 THERM (in), 9 VBAT (power), 10 VBAT (power), 11 EP (power)

## MCP73834T-FCI/UN
designator U?
Stand-Alone Linear Li-Ion/Li-Polymer Charge Management Controller with Timer Enable, 4.2V, 10-Pin MSOP, Industrial Temperature, Tape and Reel; DatasheetVersion: revB, May-2009; PackageVersion: revBB, Aug-2009; PackageReference: MSOP-UN10; PackageDescription: 10-Lead Plastic Micro Small Outline Package (UN) [MSOP]; ComponentLink1Description: Manufacturer URL; ComponentLink1URL: http://www.microchip.com/; ComponentLink2Description: Datasheet; ComponentLink2URL: http://ww1.microchip.com/downloads/en/DeviceDoc/22005b.pdf; ComponentLink3Description: Package Specification; ComponentLink3URL: http://www.microchip.com/stellent/groups/techpub_sg/documents/packagingspec/en012702.pdf
footprint MSOP-UN10_N (TSSOP, 10-Leads, Body 3x3mm, Pitch 0.5mm, IPC Medium Density)
footprint MSOP-UN10_L (TSSOP, 10-Leads, Body 3x3mm, Pitch 0.5mm, IPC High Density)
footprint MSOP-UN10_M (TSSOP, 10-Leads, Body 3x3mm, Pitch 0.5mm, IPC Low Density)
pins: 1 VDD (power), 2 VDD (power), 3 STAT1 (oc), 4 STAT2 (oc), 5 VSS (power), 6 PROG (in), 7 ~{TE} (in), 8 THERM (in), 9 VBAT (power), 10 VBAT (power)

## MCP73834T-G8I/MF
designator U?
Stand-Alone Linear Li-Ion/Li-Polymer Charge Management Controller with Timer Enable, 4.2V, 10-Pin DFN, Industrial Temperature, Tape and Reel; DatasheetVersion: revB, May-2009; PackageVersion: revBB, Aug-2009; PackageReference: DFN-MF10; PackageDescription: 10-Lead Plastic Dual Flat, No Lead Package (MF) - 3x3x0.9mm Body [DFN]; ComponentLink1Description: Manufacturer URL; ComponentLink1URL: http://www.microchip.com/; ComponentLink2Description: Datasheet; ComponentLink2URL: http://ww1.microchip.com/downloads/en/DeviceDoc/22005b.pdf; ComponentLink3Description: Package Specification; ComponentLink3URL: http://www.microchip.com/stellent/groups/techpub_sg/documents/packagingspec/en012702.pdf
footprint DFN-MF10 (SON, 10-Leads, Body 3x3mm, Pitch 0.5mm, Microchip Recommended)
pins: 1 VDD (power), 2 VDD (power), 3 STAT1 (oc), 4 STAT2 (oc), 5 VSS (power), 6 PROG (in), 7 ~{TE} (in), 8 THERM (in), 9 VBAT (power), 10 VBAT (power), 11 EP (power)

## MCP73834T-G8I/UN
designator U?
Stand-Alone Linear Li-Ion/Li-Polymer Charge Management Controller with Timer Enable, 4.2V, 10-Pin MSOP, Industrial Temperature, Tape and Reel; DatasheetVersion: revB, May-2009; PackageVersion: revBB, Aug-2009; PackageReference: MSOP-UN10; PackageDescription: 10-Lead Plastic Micro Small Outline Package (UN) [MSOP]; ComponentLink1Description: Manufacturer URL; ComponentLink1URL: http://www.microchip.com/; ComponentLink2Description: Datasheet; ComponentLink2URL: http://ww1.microchip.com/downloads/en/DeviceDoc/22005b.pdf; ComponentLink3Description: Package Specification; ComponentLink3URL: http://www.microchip.com/stellent/groups/techpub_sg/documents/packagingspec/en012702.pdf
footprint MSOP-UN10_N (TSSOP, 10-Leads, Body 3x3mm, Pitch 0.5mm, IPC Medium Density)
footprint MSOP-UN10_L (TSSOP, 10-Leads, Body 3x3mm, Pitch 0.5mm, IPC High Density)
footprint MSOP-UN10_M (TSSOP, 10-Leads, Body 3x3mm, Pitch 0.5mm, IPC Low Density)
pins: 1 VDD (power), 2 VDD (power), 3 STAT1 (oc), 4 STAT2 (oc), 5 VSS (power), 6 PROG (in), 7 ~{TE} (in), 8 THERM (in), 9 VBAT (power), 10 VBAT (power)

## MCP73834T-GPI/MF
designator U?
Stand-Alone Linear Li-Ion/Li-Polymer Charge Management Controller with Timer Enable, 4.2V, 10-Pin DFN, Industrial Temperature, Tape and Reel; DatasheetVersion: revB, May-2009; PackageVersion: revBB, Aug-2009; PackageReference: DFN-MF10; PackageDescription: 10-Lead Plastic Dual Flat, No Lead Package (MF) - 3x3x0.9mm Body [DFN]; ComponentLink1Description: Manufacturer URL; ComponentLink1URL: http://www.microchip.com/; ComponentLink2Description: Datasheet; ComponentLink2URL: http://ww1.microchip.com/downloads/en/DeviceDoc/22005b.pdf; ComponentLink3Description: Package Specification; ComponentLink3URL: http://www.microchip.com/stellent/groups/techpub_sg/documents/packagingspec/en012702.pdf
footprint DFN-MF10 (SON, 10-Leads, Body 3x3mm, Pitch 0.5mm, Microchip Recommended)
pins: 1 VDD (power), 2 VDD (power), 3 STAT1 (oc), 4 STAT2 (oc), 5 VSS (power), 6 PROG (in), 7 ~{TE} (in), 8 THERM (in), 9 VBAT (power), 10 VBAT (power), 11 EP (power)

## MCP73834T-GPI/UN
designator U?
Stand-Alone Linear Li-Ion/Li-Polymer Charge Management Controller with Timer Enable, 4.2V, 10-Pin MSOP, Industrial Temperature, Tape and Reel; DatasheetVersion: revB, May-2009; PackageVersion: revBB, Aug-2009; PackageReference: MSOP-UN10; PackageDescription: 10-Lead Plastic Micro Small Outline Package (UN) [MSOP]; ComponentLink1Description: Manufacturer URL; ComponentLink1URL: http://www.microchip.com/; ComponentLink2Description: Datasheet; ComponentLink2URL: http://ww1.microchip.com/downloads/en/DeviceDoc/22005b.pdf; ComponentLink3Description: Package Specification; ComponentLink3URL: http://www.microchip.com/stellent/groups/techpub_sg/documents/packagingspec/en012702.pdf
footprint MSOP-UN10_N (TSSOP, 10-Leads, Body 3x3mm, Pitch 0.5mm, IPC Medium Density)
footprint MSOP-UN10_L (TSSOP, 10-Leads, Body 3x3mm, Pitch 0.5mm, IPC High Density)
footprint MSOP-UN10_M (TSSOP, 10-Leads, Body 3x3mm, Pitch 0.5mm, IPC Low Density)
pins: 1 VDD (power), 2 VDD (power), 3 STAT1 (oc), 4 STAT2 (oc), 5 VSS (power), 6 PROG (in), 7 ~{TE} (in), 8 THERM (in), 9 VBAT (power), 10 VBAT (power)

## MCP73834T-NVI/MF
designator U?
Stand-Alone Linear Li-Ion/Li-Polymer Charge Management Controller with Timer Enable, 4.35V, 10-Pin DFN, Industrial Temperature, Tape and Reel; DatasheetVersion: revB, May-2009; PackageVersion: revBB, Aug-2009; PackageReference: DFN-MF10; PackageDescription: 10-Lead Plastic Dual Flat, No Lead Package (MF) - 3x3x0.9mm Body [DFN]; ComponentLink1Description: Manufacturer URL; ComponentLink1URL: http://www.microchip.com/; ComponentLink2Description: Datasheet; ComponentLink2URL: http://ww1.microchip.com/downloads/en/DeviceDoc/22005b.pdf; ComponentLink3Description: Package Specification; ComponentLink3URL: http://www.microchip.com/stellent/groups/techpub_sg/documents/packagingspec/en012702.pdf
footprint DFN-MF10 (SON, 10-Leads, Body 3x3mm, Pitch 0.5mm, Microchip Recommended)
pins: 1 VDD (power), 2 VDD (power), 3 STAT1 (oc), 4 STAT2 (oc), 5 VSS (power), 6 PROG (in), 7 ~{TE} (in), 8 THERM (in), 9 VBAT (power), 10 VBAT (power), 11 EP (power)

## MCP73834T-NVI/UN
designator U?
Stand-Alone Linear Li-Ion/Li-Polymer Charge Management Controller with Timer Enable, 4.35V, 10-Pin MSOP, Industrial Temperature, Tape and Reel; DatasheetVersion: revB, May-2009; PackageVersion: revBB, Aug-2009; PackageReference: MSOP-UN10; PackageDescription: 10-Lead Plastic Micro Small Outline Package (UN) [MSOP]; ComponentLink1Description: Manufacturer URL; ComponentLink1URL: http://www.microchip.com/; ComponentLink2Description: Datasheet; ComponentLink2URL: http://ww1.microchip.com/downloads/en/DeviceDoc/22005b.pdf; ComponentLink3Description: Package Specification; ComponentLink3URL: http://www.microchip.com/stellent/groups/techpub_sg/documents/packagingspec/en012702.pdf
footprint MSOP-UN10_N (TSSOP, 10-Leads, Body 3x3mm, Pitch 0.5mm, IPC Medium Density)
footprint MSOP-UN10_L (TSSOP, 10-Leads, Body 3x3mm, Pitch 0.5mm, IPC High Density)
footprint MSOP-UN10_M (TSSOP, 10-Leads, Body 3x3mm, Pitch 0.5mm, IPC Low Density)
pins: 1 VDD (power), 2 VDD (power), 3 STAT1 (oc), 4 STAT2 (oc), 5 VSS (power), 6 PROG (in), 7 ~{TE} (in), 8 THERM (in), 9 VBAT (power), 10 VBAT (power)

## MCP73834T-YAI/MF
designator U?
Stand-Alone Linear Li-Ion/Li-Polymer Charge Management Controller with Timer Enable, 4.2V, 10-Pin DFN, Industrial Temperature, Tape and Reel; DatasheetVersion: revB, May-2009; PackageVersion: revBB, Aug-2009; PackageReference: DFN-MF10; PackageDescription: 10-Lead Plastic Dual Flat, No Lead Package (MF) - 3x3x0.9mm Body [DFN]; ComponentLink1Description: Manufacturer URL; ComponentLink1URL: http://www.microchip.com/; ComponentLink2Description: Datasheet; ComponentLink2URL: http://ww1.microchip.com/downloads/en/DeviceDoc/22005b.pdf; ComponentLink3Description: Package Specification; ComponentLink3URL: http://www.microchip.com/stellent/groups/techpub_sg/documents/packagingspec/en012702.pdf
footprint DFN-MF10 (SON, 10-Leads, Body 3x3mm, Pitch 0.5mm, Microchip Recommended)
pins: 1 VDD (power), 2 VDD (power), 3 STAT1 (oc), 4 STAT2 (oc), 5 VSS (power), 6 PROG (in), 7 ~{TE} (in), 8 THERM (in), 9 VBAT (power), 10 VBAT (power), 11 EP (power)

## MCP73834T-YAI/UN
designator U?
Stand-Alone Linear Li-Ion/Li-Polymer Charge Management Controller with Timer Enable, 4.2V, 10-Pin MSOP, Industrial Temperature, Tape and Reel; DatasheetVersion: revB, May-2009; PackageVersion: revBB, Aug-2009; PackageReference: MSOP-UN10; PackageDescription: 10-Lead Plastic Micro Small Outline Package (UN) [MSOP]; ComponentLink1Description: Manufacturer URL; ComponentLink1URL: http://www.microchip.com/; ComponentLink2Description: Datasheet; ComponentLink2URL: http://ww1.microchip.com/downloads/en/DeviceDoc/22005b.pdf; ComponentLink3Description: Package Specification; ComponentLink3URL: http://www.microchip.com/stellent/groups/techpub_sg/documents/packagingspec/en012702.pdf
footprint MSOP-UN10_N (TSSOP, 10-Leads, Body 3x3mm, Pitch 0.5mm, IPC Medium Density)
footprint MSOP-UN10_L (TSSOP, 10-Leads, Body 3x3mm, Pitch 0.5mm, IPC High Density)
footprint MSOP-UN10_M (TSSOP, 10-Leads, Body 3x3mm, Pitch 0.5mm, IPC Low Density)
pins: 1 VDD (power), 2 VDD (power), 3 STAT1 (oc), 4 STAT2 (oc), 5 VSS (power), 6 PROG (in), 7 ~{TE} (in), 8 THERM (in), 9 VBAT (power), 10 VBAT (power)

## MCP73837-FCI/MF
designator U?
Stand-Alone Li-Ion/Li-Polymer Battery Charge Management Controller with Autonomous AC-Adapter or USB-Port Source Selection, 4.2V, 10-Pin DFN, Industrial Temperature; DatasheetVersion: revA, Nov-2007; PackageVersion: revBB, Aug-2009; PackageReference: DFN-MF10; PackageDescription: 10-Lead Plastic Dual Flat, No Lead Package (MF) - 3x3x0.9mm Body [DFN]; ComponentLink1Description: Manufacturer URL; ComponentLink1URL: http://www.microchip.com/; ComponentLink2Description: Datasheet; ComponentLink2URL: http://ww1.microchip.com/downloads/en/DeviceDoc/22071a.pdf; ComponentLink3Description: Package Specification; ComponentLink3URL: http://www.microchip.com/stellent/groups/techpub_sg/documents/packagingspec/en012702.pdf
footprint DFN-MF10 (SON, 10-Leads, Body 3x3mm, Pitch 0.5mm, Microchip Recommended)
pins: 1 VAC (power), 2 VUSB (power), 3 STAT1 (oc), 4 STAT2 (oc), 5 VSS (power), 6 PROG1 (io), 7 PROG2 (in), 8 PG (oc), 9 THERM (io), 10 VBAT (power), 11 EP (power)

## MCP73837-FCI/UN
designator U?
Stand-Alone Li-Ion/Li-Polymer Battery Charge Management Controller with Autonomous AC-Adapter or USB-Port Source Selection, 4.2V, 10-Pin MSOP, Industrial Temperature; DatasheetVersion: revA, Nov-2007; PackageVersion: revBB, Aug-2009; PackageReference: MSOP-UN10; PackageDescription: 10-Lead Plastic Micro Small Outline Package (UN) [MSOP]; ComponentLink1Description: Manufacturer URL; ComponentLink1URL: http://www.microchip.com/; ComponentLink2Description: Datasheet; ComponentLink2URL: http://ww1.microchip.com/downloads/en/DeviceDoc/22071a.pdf; ComponentLink3Description: Package Specification; ComponentLink3URL: http://www.microchip.com/stellent/groups/techpub_sg/documents/packagingspec/en012702.pdf
footprint MSOP-UN10_N (TSSOP, 10-Leads, Body 3x3mm, Pitch 0.5mm, IPC Medium Density)
footprint MSOP-UN10_L (TSSOP, 10-Leads, Body 3x3mm, Pitch 0.5mm, IPC High Density)
footprint MSOP-UN10_M (TSSOP, 10-Leads, Body 3x3mm, Pitch 0.5mm, IPC Low Density)
pins: 1 VAC (power), 2 VUSB (power), 3 STAT1 (oc), 4 STAT2 (oc), 5 VSS (power), 6 PROG1 (io), 7 PROG2 (in), 8 PG (oc), 9 THERM (io), 10 VBAT (power)

## MCP73837-FJI/MF
designator U?
Stand-Alone Li-Ion/Li-Polymer Battery Charge Management Controller with Autonomous AC-Adapter or USB-Port Source Selection, 10-Pin DFN, Industrial Temperature; DatasheetVersion: revA, Nov-2007; PackageVersion: revBB, Aug-2009; PackageReference: DFN-MF10; PackageDescription: 10-Lead Plastic Dual Flat, No Lead Package (MF) - 3x3x0.9mm Body [DFN]; ComponentLink1Description: Manufacturer URL; ComponentLink1URL: http://www.microchip.com/; ComponentLink2Description: Datasheet; ComponentLink2URL: http://ww1.microchip.com/downloads/en/DeviceDoc/22071a.pdf; ComponentLink3Description: Package Specification; ComponentLink3URL: http://www.microchip.com/stellent/groups/techpub_sg/documents/packagingspec/en012702.pdf
footprint DFN-MF10 (SON, 10-Leads, Body 3x3mm, Pitch 0.5mm, Microchip Recommended)
pins: 1 VAC (power), 2 VUSB (power), 3 STAT1 (oc), 4 STAT2 (oc), 5 VSS (power), 6 PROG1 (io), 7 PROG2 (in), 8 PG (oc), 9 THERM (io), 10 VBAT (power), 11 EP (power)

## MCP73837-FJI/UN
designator U?
Stand-Alone Li-Ion/Li-Polymer Battery Charge Management Controller with Autonomous AC-Adapter or USB-Port Source Selection, 10-Pin MSOP, Industrial Temperature; DatasheetVersion: revA, Nov-2007; PackageVersion: revBB, Aug-2009; PackageReference: MSOP-UN10; PackageDescription: 10-Lead Plastic Micro Small Outline Package (UN) [MSOP]; ComponentLink1Description: Manufacturer URL; ComponentLink1URL: http://www.microchip.com/; ComponentLink2Description: Datasheet; ComponentLink2URL: http://ww1.microchip.com/downloads/en/DeviceDoc/22071a.pdf; ComponentLink3Description: Package Specification; ComponentLink3URL: http://www.microchip.com/stellent/groups/techpub_sg/documents/packagingspec/en012702.pdf
footprint MSOP-UN10_N (TSSOP, 10-Leads, Body 3x3mm, Pitch 0.5mm, IPC Medium Density)
footprint MSOP-UN10_L (TSSOP, 10-Leads, Body 3x3mm, Pitch 0.5mm, IPC High Density)
footprint MSOP-UN10_M (TSSOP, 10-Leads, Body 3x3mm, Pitch 0.5mm, IPC Low Density)
pins: 1 VAC (power), 2 VUSB (power), 3 STAT1 (oc), 4 STAT2 (oc), 5 VSS (power), 6 PROG1 (io), 7 PROG2 (in), 8 PG (oc), 9 THERM (io), 10 VBAT (power)

## MCP73837-NVI/MF
designator U?
Stand-Alone Li-Ion/Li-Polymer Battery Charge Management Controller with Autonomous AC-Adapter or USB-Port Source Selection, 4.35V, 10-Pin DFN, Industrial Temperature; DatasheetVersion: revA, Nov-2007; PackageVersion: revBB, Aug-2009; PackageReference: DFN-MF10; PackageDescription: 10-Lead Plastic Dual Flat, No Lead Package (MF) - 3x3x0.9mm Body [DFN]; ComponentLink1Description: Manufacturer URL; ComponentLink1URL: http://www.microchip.com/; ComponentLink2Description: Datasheet; ComponentLink2URL: http://ww1.microchip.com/downloads/en/DeviceDoc/22071a.pdf; ComponentLink3Description: Package Specification; ComponentLink3URL: http://www.microchip.com/stellent/groups/techpub_sg/documents/packagingspec/en012702.pdf
footprint DFN-MF10 (SON, 10-Leads, Body 3x3mm, Pitch 0.5mm, Microchip Recommended)
pins: 1 VAC (power), 2 VUSB (power), 3 STAT1 (oc), 4 STAT2 (oc), 5 VSS (power), 6 PROG1 (io), 7 PROG2 (in), 8 PG (oc), 9 THERM (io), 10 VBAT (power), 11 EP (power)

## MCP73837-NVI/UN
designator U?
Stand-Alone Li-Ion/Li-Polymer Battery Charge Management Controller with Autonomous AC-Adapter or USB-Port Source Selection, 4.35V, 10-Pin MSOP, Industrial Temperature; DatasheetVersion: revA, Nov-2007; PackageVersion: revBB, Aug-2009; PackageReference: MSOP-UN10; PackageDescription: 10-Lead Plastic Micro Small Outline Package (UN) [MSOP]; ComponentLink1Description: Manufacturer URL; ComponentLink1URL: http://www.microchip.com/; ComponentLink2Description: Datasheet; ComponentLink2URL: http://ww1.microchip.com/downloads/en/DeviceDoc/22071a.pdf; ComponentLink3Description: Package Specification; ComponentLink3URL: http://www.microchip.com/stellent/groups/techpub_sg/documents/packagingspec/en012702.pdf
footprint MSOP-UN10_N (TSSOP, 10-Leads, Body 3x3mm, Pitch 0.5mm, IPC Medium Density)
footprint MSOP-UN10_L (TSSOP, 10-Leads, Body 3x3mm, Pitch 0.5mm, IPC High Density)
footprint MSOP-UN10_M (TSSOP, 10-Leads, Body 3x3mm, Pitch 0.5mm, IPC Low Density)
pins: 1 VAC (power), 2 VUSB (power), 3 STAT1 (oc), 4 STAT2 (oc), 5 VSS (power), 6 PROG1 (io), 7 PROG2 (in), 8 PG (oc), 9 THERM (io), 10 VBAT (power)